# Altium integrated library ON Semi Signal Management MMICs.IntLib: 7 symbols
Pins are listed as number, name and electrical type; pins without a type are passive.

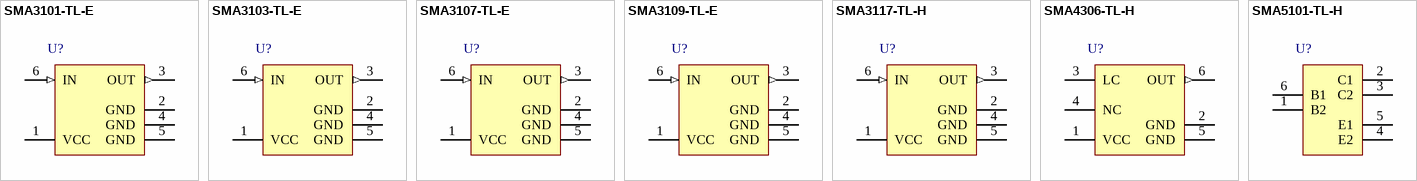
[diagram p0: symbols SMA3101-TL-E to SMA5101-TL-H]

## SMA3101-TL-E
designator U?
MMIC, Amplifier, 5 V, 10 mA, 0.1 to 3 GHz, 4.5 to 5.5 V, -40 to 85 degC, 6-Pin MCPH, Pb-Free, Tape and Reel; Manufacturer: On Semiconductor; PartNumber: SMA3101-TL-E; ICC Max (mA): 12.6; ICC Min (mA): 7.1; Noise Figure Max (dB): 5.3; Power Gain Max (dB): 28.5; Power Gain Min (dB): 21.5; Upper Freq (3 dB) (GHz): 3; VCC Max (V): 5.5; VCC Min (V): 4.5; DatasheetVersion: Rev. 1; PackageReference: MCPH-6; PackageDescription: 6-Pin Small Outline Transistor, Body 2 x 1.6 mm, Pitch 0.65 mm; Supplier 1: Digi-Key; Supplier Part Number 1: SMA3101-TL-E-ND; Supplier 2: Mouser; Supplier Part Number 2: 863-SMA3101-TL-E; Packing: Tape and Reel; RoHS: TRUE; Mounting Technology: Surface Mount; ComponentLink1Description: Manufacturer URL; ComponentLink1URL: http://www.onsemi.com/; ComponentLink2Description: Datasheet; ComponentLink2URL: http://www.onsemi.com/pub_link/Collateral/ENA1431A-D.PDF; ComponentLink3Description: Package Specification; ComponentLink3URL: http://www.onsemi.com/pub_link/Collateral/ENA1601-D.PDF
footprint ONSC-MCPH-6_V (SOT23, 6-Leads, Body 2x1.6mm, Pitch 0.65mm)
pins: 1 VCC (power), 2 GND (power), 3 OUT (out), 4 GND (power), 5 GND (power), 6 IN (in)

## SMA3103-TL-E
designator U?
MMIC, Amplifier, 5 V, 19 mA, 0.1 to 3.3 GHz, 4.5 to 5.5 V, -40 to 85 degC, 6-Pin MCPH, Pb-Free, Tape and Reel; Manufacturer: On Semiconductor; PartNumber: SMA3103-TL-E; ICC Max (mA): 25; ICC Min (mA): 14; Noise Figure Max (dB): 5.3; Power Gain Min (dB): 24; Upper Freq (3 dB) (GHz): 3.3; VCC Max (V): 5.5; VCC Min (V): 4.5; DatasheetVersion: Rev. 1; PackageReference: MCPH-6; PackageDescription: 6-Pin Small Outline Transistor, Body 2 x 1.6 mm, Pitch 0.65 mm; Supplier 1: Digi-Key; Supplier Part Number 1: SMA3103-TL-E-ND; Supplier 2: Mouser; Supplier Part Number 2: 863-SMA3103-TL-E; Packing: Tape and Reel; RoHS: TRUE; Mounting Technology: Surface Mount; ComponentLink1Description: Manufacturer URL; ComponentLink1URL: http://www.onsemi.com/; ComponentLink2Description: Datasheet; ComponentLink2URL: http://www.onsemi.cn/pub_link/Collateral/SMA3103-D.PDF; ComponentLink3Description: Package Specification; ComponentLink3URL: http://www.onsemi.com/pub_link/Collateral/ENA1601-D.PDF
footprint ONSC-MCPH-6_V (SOT23, 6-Leads, Body 2x1.6mm, Pitch 0.65mm)
pins: 1 VCC (power), 2 GND (power), 3 OUT (out), 4 GND (power), 5 GND (power), 6 IN (in)

## SMA3107-TL-E
designator U?
MMIC, Amplifier, 3 V, 6 mA, 0.1 to 2.8 GHz, 2.7 to 3.3 V, -40 to 85 degC, 6-Pin MCPH, Pb-Free, Tape and Reel; Manufacturer: On Semiconductor; PartNumber: SMA3107-TL-E; ICC Max (mA): 7.7; ICC Min (mA): 4.3; Upper Freq (3 dB) (GHz): 2.8; VCC Max (V): 3.3; VCC Min (V): 2.7; DatasheetVersion: Rev. 1; PackageReference: MCPH-6; PackageDescription: 6-Pin Small Outline Transistor, Body 2 x 1.6 mm, Pitch 0.65 mm; Supplier 1: Digi-Key; Supplier Part Number 1: SMA3107-TL-E-ND; Supplier 2: Mouser; Supplier Part Number 2: 863-SMA3107-TL-E; Noise Figure Max (dB): 4.3; Packing: Tape and Reel; RoHS: TRUE; Mounting Technology: Surface Mount; ComponentLink1Description: Manufacturer URL; ComponentLink1URL: http://www.onsemi.com/; ComponentLink2Description: Datasheet; ComponentLink2URL: http://www.onsemi.com/pub_link/Collateral/SMA3107-D.PDF; ComponentLink3Description: Package Specification; ComponentLink3URL: http://www.onsemi.com/pub_link/Collateral/ENA1601-D.PDF
footprint ONSC-MCPH-6_V (SOT23, 6-Leads, Body 2x1.6mm, Pitch 0.65mm)
pins: 1 VCC (power), 2 GND (power), 3 OUT (out), 4 GND (power), 5 GND (power), 6 IN (in)

## SMA3109-TL-E
designator U?
MMIC, Amplifier, 3 V, 16 mA, 0.1 to 3.6 GHz, 2.7 to 3.3 V, -40 to 85 degC, 6-Pin MCPH, Pb-Free, Tape and Reel; Manufacturer: On Semiconductor; PartNumber: SMA3109-TL-E; ICC Max (mA): 20.5; ICC Min (mA): 11.5; Noise Figure Max (dB): 5; Upper Freq (3 dB) (GHz): 3.6; VCC Max (V): 3.3; VCC Min (V): 2.7; DatasheetVersion: Rev. 0; PackageReference: MCPH-6; PackageDescription: 6-Pin Small Outline Transistor, Body 2 x 1.6 mm, Pitch 0.65 mm; Supplier 1: Digi-Key; Supplier Part Number 1: SMA3109-TL-E-ND; Supplier 2: Mouser; Supplier Part Number 2: 863-SMA3109-TL-E; Packing: Tape and Reel; RoHS: TRUE; Mounting Technology: Surface Mount; ComponentLink1Description: Manufacturer URL; ComponentLink1URL: http://www.onsemi.com/; ComponentLink2Description: Datasheet; ComponentLink2URL: http://www.onsemi.com/pub/Collateral/SMA3109-D.PDF; ComponentLink3Description: Package Specification; ComponentLink3URL: http://www.onsemi.com/pub_link/Collateral/ENA1601-D.PDF
footprint ONSC-MCPH-6_V (SOT23, 6-Leads, Body 2x1.6mm, Pitch 0.65mm)
pins: 1 VCC (power), 2 GND (power), 3 OUT (out), 4 GND (power), 5 GND (power), 6 IN (in)

## SMA3117-TL-H
designator U?
MMIC, Amplifier, 5 V, 22.7 mA, 0.1 to 3 GHz, 4.5 to 5.5 V, -40 to 85 degC, 6-Pin MCPH, Pb-Free, Tape and Reel; Manufacturer: On Semiconductor; PartNumber: SMA3117-TL-H; ICC Max (mA): 28; ICC Min (mA): 18.5; Noise Figure Max (dB): 5; Upper Freq (3 dB) (GHz): 3; VCC Max (V): 5.5; VCC Min (V): 4.5; DatasheetVersion: Rev. 0; PackageReference: MCPH-6; PackageDescription: 6-Pin Small Outline Transistor, Body 2 x 1.6 mm, Pitch 0.65 mm; Supplier 1: Digi-Key; Supplier Part Number 1: SMA3117-TL-H-ND; Supplier 2: Mouser; Supplier Part Number 2: 863-SMA3117-TL-H; Packing: Tape and Reel; RoHS: TRUE; Mounting Technology: Surface Mount; ComponentLink1Description: Manufacturer URL; ComponentLink1URL: http://www.onsemi.com/; ComponentLink2Description: Datasheet; ComponentLink2URL: http://www.onsemi.com/pub_link/Collateral/EN8936-D.PDF; ComponentLink3Description: Package Specification; ComponentLink3URL: http://www.onsemi.com/pub_link/Collateral/ENA1601-D.PDF
footprint ONSC-MCPH-6_V (SOT23, 6-Leads, Body 2x1.6mm, Pitch 0.65mm)
pins: 1 VCC (power), 2 GND (power), 3 OUT (out), 4 GND (power), 5 GND (power), 6 IN (in)

## SMA4306-TL-H
designator U?
MMIC, Oscillator, 5 V, 6.4 dBm@400 MHz, 3 to 5.5 V, -40 to 85 degC, 6-Pin SCH, Pb-Free, Tape and Reel; Manufacturer: On Semiconductor; PartNumber: SMA4306-TL-H; ICC Max (mA): 39; ICC Min (mA): 29; VCC Max (V): 5.5; VCC Min (V): 3; DatasheetVersion: Rev. 0; PackageReference: SCH-6; PackageDescription: 6-Pin Small Outline No-Lead, Body 1.6 x 1.5 mm, Pitch 0.5 mm; Supplier 1: Digi-Key; Supplier Part Number 1: SMA4306-TL-H-ND; Supplier 2: Newark; Supplier Part Number 2: 07W7410; Supplier 3: Mouser; Supplier Part Number 3: 863-SMA4306-TL-H; Packing: Tape and Reel; RoHS: TRUE; Mounting Technology: Surface Mount; ComponentLink1Description: Manufacturer URL; ComponentLink1URL: http://www.onsemi.com/; ComponentLink2Description: Datasheet; ComponentLink2URL: http://www.onsemi.com/pub_link/Collateral/ENA1771-D.PDF; ComponentLink3Description: Package Specification; ComponentLink3URL: http://www.onsemi.com/pub_link/Collateral/EN8043-D.PDF
footprint ONSC-SCH-6_V (SON, 6-Leads, Body 1.6x1.5mm, Pitch 0.5mm)
pins: 1 VCC (power), 2 GND (power), 3 LC, 4 NC, 5 GND (power), 6 OUT (out)

## SMA5101-TL-H
designator U?
MMIC, Mixer, IIP3=15 dBm, Gc=-0.5 dB@450 MHz, 1.2 to 6 V, -40 to 85 degC, 6-Pin MCPH, Pb-Free, Tape and Reel; Manufacturer: On Semiconductor; PartNumber: SMA5101-TL-H; VCC Max (V): 6; VCC Min (V): 1.2; DatasheetVersion: Rev. 1; PackageReference: MCPH-6; PackageDescription: 6-Pin Small Outline Transistor, Body 2 x 1.6 mm, Pitch 0.65 mm; Supplier 1: Digi-Key; Supplier Part Number 1: SMA5101-TL-H-ND; Packing: Tape and Reel; RoHS: TRUE; Mounting Technology: Surface Mount; ComponentLink1Description: Manufacturer URL; ComponentLink1URL: http://www.onsemi.com/; ComponentLink2Description: Datasheet; ComponentLink2URL: http://www.onsemi.com/pub/Collateral/ENA1839-D.PDF; ComponentLink3Description: Package Specification; ComponentLink3URL: http://www.onsemi.com/pub_link/Collateral/ENA1601-D.PDF
footprint ONSC-MCPH-6_V (SOT23, 6-Leads, Body 2x1.6mm, Pitch 0.65mm)
pins: 1 B2, 2 C1, 3 C2, 4 E2, 5 E1, 6 B1